# Altium integrated library SophistiLib.IntLib: 86 symbols
Pins are listed as number, name and electrical type; pins without a type are passive.

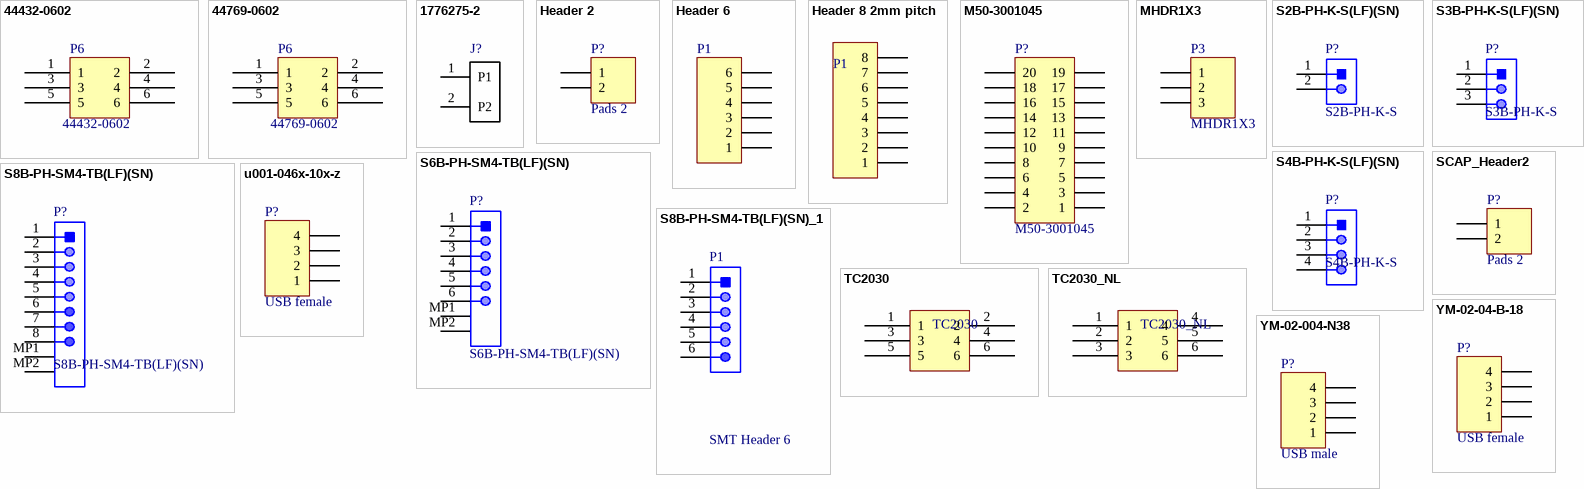
[diagram p0: symbols 44432-0602 to YM-02-004-N38]

## 44432-0602
designator P6
Molex 6 pin (2x3) header, pitch 3mm
footprint 44432-0602
pins: 1, 2, 3, 4, 5, 6

## 44769-0602
designator P6
Molex Male 6 pin (2x3) header, pitch 3mm
footprint 44769-0602
pins: 1, 2, 3, 4, 5, 6

## 1776275-2
designator J?  (value not drawn)
Vertical Term Blk Side Wire En; Number_of_Positions: 2; MF: TE Connectivity; Centerline_Pitch: 3.5 mm[.138 in]; MP: 1776275-2; Package: None; Availability: Good; EU_RoHS_Compliance: Compliant with Exemptions; Link: http://www.te.com/usa-en/product-1776275-2.html; SnapEDA_Link: https://www.snapeda.com/parts/1776275-2/TE%20Connectivity%20AMP%20Connectors/view-part/?ref=snap; Price: 0.42 USD; Value: *
footprint TE_1776275-2
pins: 1 P1, 2 P2

## Header 2
designator P?, comment Pads 2
Pads Through Hole 2 pins; LatestRevisionDate: 17-Jul-2002; LatestRevisionNote: Re-released for DXP Platform.; Publisher: Altium Limited
footprint HDRPDS2 (Connector; Header; 2 Position)
signal-integrity model Connector
pins: 1, 2

## Header 6
designator P1
Header, 6-Pin; LatestRevisionDate: 17-Jul-2002; LatestRevisionNote: Re-released for DXP Platform.; Publisher: Altium Limited
footprint HDR1X6 (Connector; Header; 6 Position)
signal-integrity model Connector
pins: 1, 2, 3, 4, 5, 6

## Header 8 2mm pitch
designator P1
Header, 8-Pin; LatestRevisionDate: 17-Jul-2002; LatestRevisionNote: Re-released for DXP Platform.; Publisher: Altium Limited
footprint HDR1X8 2mm (Connector; Header; 8 Position)
signal-integrity model Connector
pins: 1, 2, 3, 4, 5, 6, 7, 8

## M50-3001045
designator P?
Header, 10-Pin, Dual row; LatestRevisionDate: 17-Jul-2002; LatestRevisionNote: Re-released for DXP Platform.; Publisher: Altium Limited
footprint M50-3001045 (CONN RCPT 1.27MM T/H AU 20POS)
pins: 1, 2, 3, 4, 5, 6, 7, 8, 9, 10, 11, 12, 13, 14, 15, 16, 17, 18, 19, 20

## MHDR1X3
designator P3
Header, 3-Pin; LatestRevisionDate: 17-Jul-2002; LatestRevisionNote: Re-released for DXP Platform.; Publisher: Altium Limited
footprint MHDR1X3 (Connector; Header; 3 Position)
signal-integrity model Connector
footprint 53398-0371
pins: 1, 2, 3

## S2B-PH-K-S(LF)(SN)
designator P?, comment S2B-PH-K-S
Male Header, Pitch 2 mm, 1 x 2 Position, Height 4.8 mm, Tail Length 3.4 mm, -25 to 85 degC, RoHS, Bulk; Case\Package: Radial; Tolerance: 20%; Capacitance: 10 uF; Voltage Rating (DC): 50 V; Packaging: Bulk; ComponentLink1URL: http://www.jst-mfg.com/product/pdf/eng/ePH.pdf; Radiation Hardening: No; Height: 11 mm; Package Quantity: 200; PackageDescription: Male Header, Pitch 2 mm, 1 x 2 Position, Height 4.8 mm, Tail Length 3.4 mm; PackageReference: S2B-PH-K-S; Diameter: 5 mm; Pins: 2; Mount: Through Hole; Max Operating Temperature: 85 degC; Min Operating Temperature: -40 degC; ComponentLink1Description: Datasheet; DatasheetVersion: Dec-12; Length: 11 mm; Lead Pitch: 2 mm; REACH SVHC: No SVHC; Voltage Rating: 50 V; RoHSCompliant: true
footprint JST-S2B-PH-K-S_V (THD, 2-Leads, Body 7.6x5.9mm, Pitch 2mm)
pins: 1, 2

## S3B-PH-K-S(LF)(SN)
designator P?, comment S3B-PH-K-S
Male Header, Pitch 2 mm, 1 x 3 Position, Height 4.8 mm, Tail Length 3.4 mm, -25 to 85 degC, RoHS, Bulk; Case\Package: Radial; Tolerance: 20%; Capacitance: 10 uF; Voltage Rating (DC): 50 V; Packaging: Bulk; ComponentLink1URL: http://www.jst-mfg.com/product/pdf/eng/ePH.pdf; Radiation Hardening: No; Height: 11 mm; Package Quantity: 200; PackageDescription: Male Header, Pitch 2 mm, 1 x 3 Position, Height 4.8 mm, Tail Length 3.4 mm; PackageReference: S2B-PH-K-S; Diameter: 5 mm; Pins: 2; Mount: Through Hole; Max Operating Temperature: 85 degC; Min Operating Temperature: -40 degC; ComponentLink1Description: Datasheet; DatasheetVersion: Dec-12; Length: 11 mm; Lead Pitch: 2 mm; REACH SVHC: No SVHC; Voltage Rating: 50 V; RoHSCompliant: true
footprint JST-S3B-PH-K-S_V (THD, 3-Leads, Body 7.6x5.9mm, Pitch 2mm)
pins: 1, 2, 3

## S4B-PH-K-S(LF)(SN)
designator P?, comment S4B-PH-K-S
Male Header, Pitch 2 mm, 1 x 4 Position, Height 4.8 mm, Tail Length 3.4 mm, -25 to 85 degC, RoHS, Bulk; Case\Package: Radial; Tolerance: 20%; Capacitance: 10 uF; Voltage Rating (DC): 50 V; Packaging: Bulk; ComponentLink1URL: http://www.jst-mfg.com/product/pdf/eng/ePH.pdf; Radiation Hardening: No; Height: 11 mm; Package Quantity: 200; PackageDescription: Male Header, Pitch 2 mm, 1 x 4 Position, Height 4.8 mm, Tail Length 3.4 mm; PackageReference: S2B-PH-K-S; Diameter: 5 mm; Pins: 2; Mount: Through Hole; Max Operating Temperature: 85 degC; Min Operating Temperature: -40 degC; ComponentLink1Description: Datasheet; DatasheetVersion: Dec-12; Length: 11 mm; Lead Pitch: 2 mm; REACH SVHC: No SVHC; Voltage Rating: 50 V; RoHSCompliant: true
footprint JST-S4B-PH-K-S_V (THD, 4-Leads, Body 7.6x5.9mm, Pitch 2mm)
pins: 1, 2, 3, 4

## S6B-PH-SM4-TB(LF)(SN)
designator P?
Male Header, Pitch 2 mm, 1 x 6 Position, Height 5.5 mm, -25 to 85 degC; Manufacturer: JST; Pitch: 2mm; Style/Orientation: RightAngleHeader/Plug; No of Positions: 6; Package Reference: S6B-PH-SM4-TB(LF)(SN); Type: ShroudedHeader; Package Description: Male Header, Pitch 2 mm, 1 x 6 Position, Height 5.5 mm; Mounting Technology: SurfaceMount; Datasheet Version: 11/2008; Termination: Solder; Datasheet URL: https://datasheet.ciiva.com/11747/0900766b80df0d9d-11747278.pdf; Manufacturer URL: http://www.jst.com/home2.html
footprint JST-S6B-PH-SM4-TB(LF)(SN)_V (SMD, 2-Leads, Body 15.9x7.6mm, Pitch 2mm)
pins: 1, 2, 3, 4, 5, 6, MP1, MP2

## S8B-PH-SM4-TB(LF)(SN)
designator P?
Male Header, Pitch 2 mm, 1 x 8 Position, Height 5.5 mm, -25 to 85 degC; Manufacturer: JST; Pitch: 2mm; Style/Orientation: RightAngleHeader/Plug; No of Positions: 6; Package Reference: S8B-PH-SM4-TB(LF)(SN); Type: ShroudedHeader; Package Description: Male Header, Pitch 2 mm, 1 x 8 Position, Height 5.5 mm; Mounting Technology: SurfaceMount; Datasheet Version: 11/2008; Termination: Solder; Datasheet URL: https://datasheet.ciiva.com/11747/0900766b80df0d9d-11747278.pdf; Manufacturer URL: http://www.jst.com/home2.html
footprint S8B-PH-SM4-TB(LF)(SN)
pins: 1, 2, 3, 4, 5, 6, 7, 8, MP1, MP2

## S8B-PH-SM4-TB(LF)(SN)_1
designator P1, comment SMT Header 6
Pads SMT, Pitch 2 mm, 1 x 6 Position, -25 to 85 degC; Pitch: 2mm; No of Positions: 6; Mounting Technology: SurfaceMount
footprint SMT Header 6 (SMD, 2-Leads, Body 15.9x7.6mm, Pitch 2mm)
pins: 1, 2, 3, 4, 5, 6

## SCAP_Header2
designator P?, comment Pads 2
Pads Through Hole 2 pins; LatestRevisionDate: 17-Jul-2002; LatestRevisionNote: Re-released for DXP Platform.; Publisher: Altium Limited
footprint HDRPDS2 SCAP (Connector; Header; 2 Position)
signal-integrity model Connector
pins: 1, 2

## TC2030
designator TC2030  (value not drawn)
footprint TC2030-MCP
pins: 1, 2, 3, 4, 5, 6

## TC2030_NL
designator TC2030_NL  (value not drawn)
footprint TC2030-MCP-NL
pins: 1, 2, 3, 4, 5, 6

## u001-046x-10x-z
designator P?, comment USB female
USB connector THT female 90deg
footprint u001-046x-10x-z
pins: 1, 2, 3, 4

## YM-02-04-B-18
designator P?, comment USB female
USB connector THT female 90deg
footprint YM-02-04-B-18
pins: 1, 2, 3, 4

## YM-02-004-N38
designator P?, comment USB male
USB connector THT male 90deg
footprint YM-02-004-N38
pins: 1, 2, 3, 4


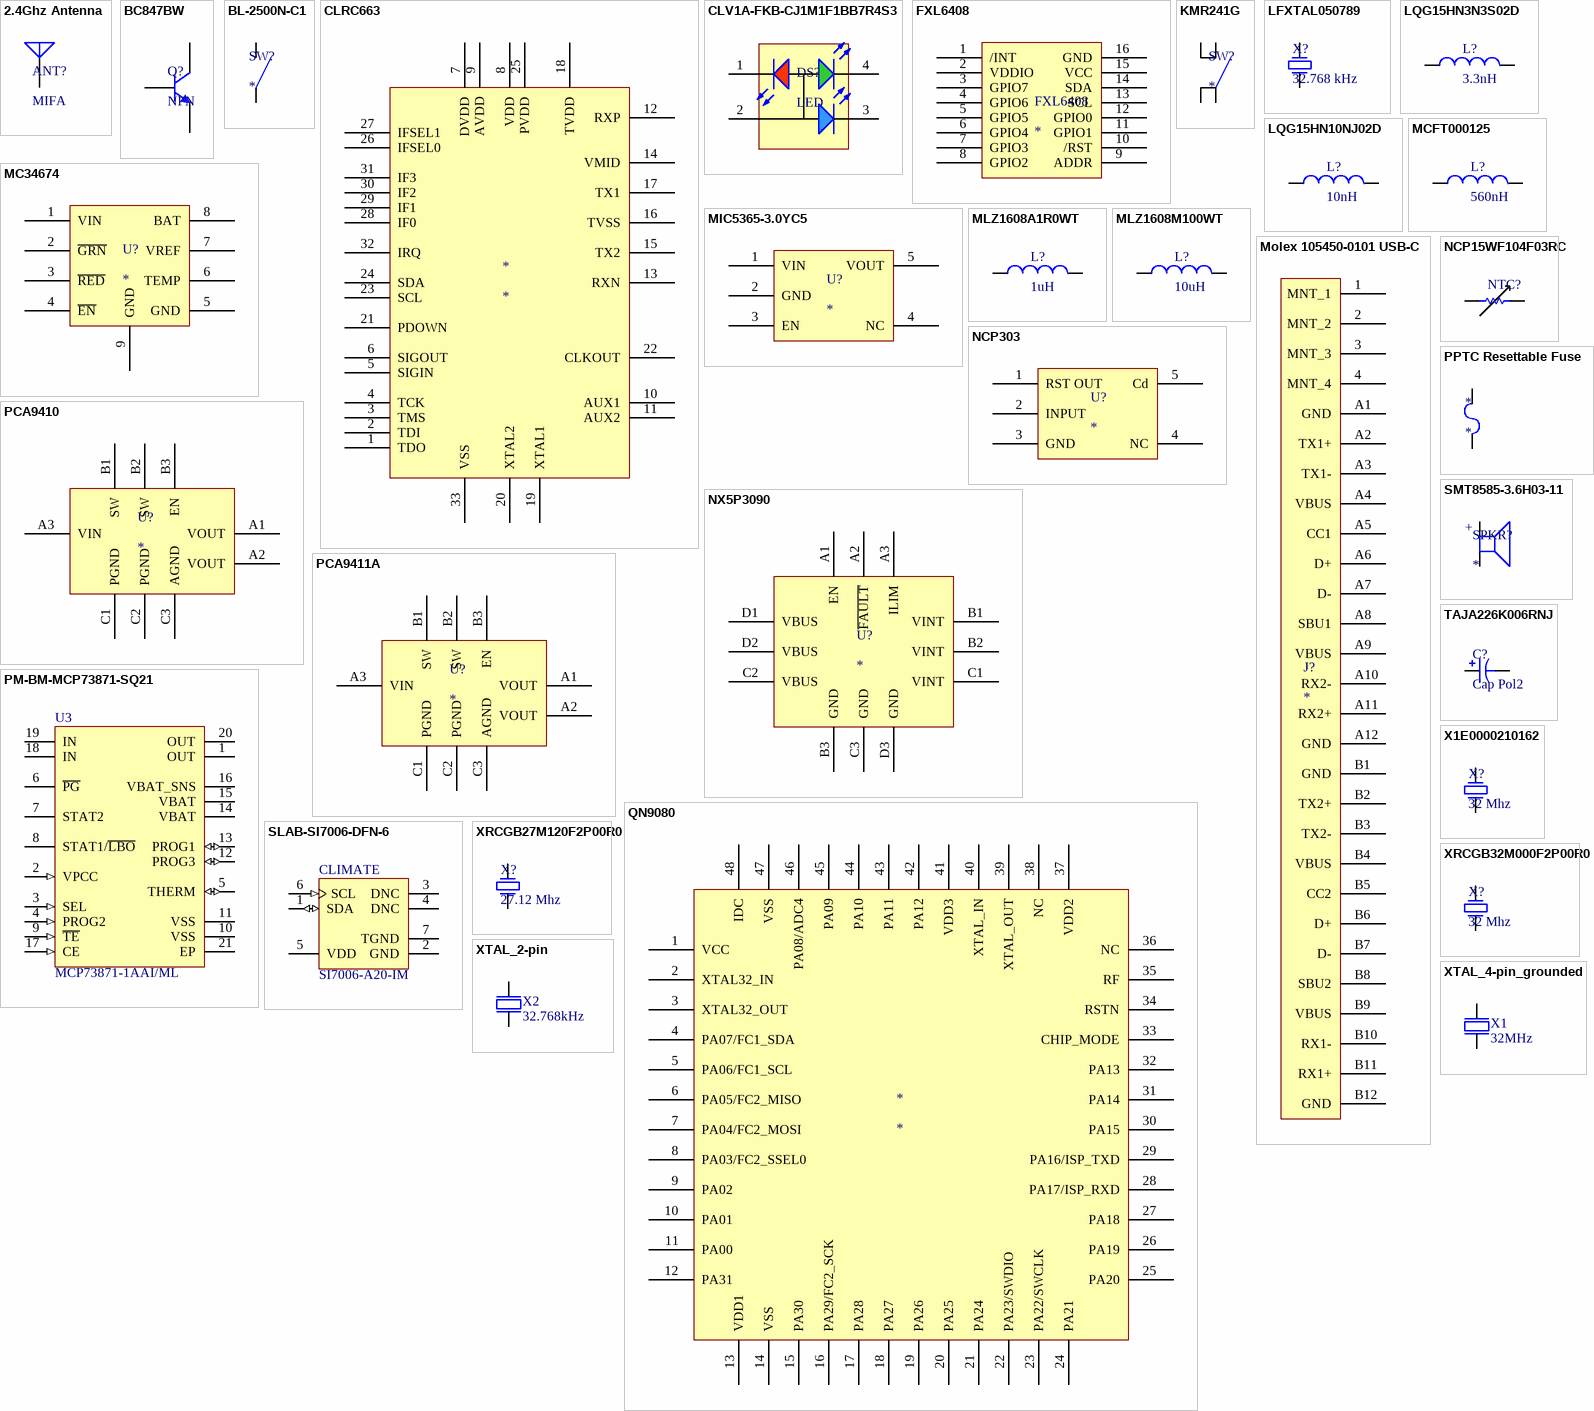
[diagram p1: symbols 2.4Ghz Antenna to XTAL_4-pin_grounded]

## 2.4Ghz Antenna
designator ANT?, comment MIFA
2.4 Ghz MIFA Antenna
footprint 2.4G MIFA (2.4G MIFA Trace Antenna)
pins: 1 A, 2 GND hidden to GND

## BC847BW
designator Q?, comment NPN
Bipolar (BJT) Single Transistor, General Purpose, NPN, 45 V, 100 MHz, 200 mW, 100 mA, 200 hFE
footprint SOT323
pins: 1 B, 2 E, 3 C

## BL-2500N-C1
designator SW?
SMD vibration sensor
footprint BL-2500N-C1
pins: 1, 2

## CLRC663
designator *
RFID READER, 13.56MHZ, HVQFN-32
footprint HVQFN-32
pins: 1 TDO, 2 TDI, 3 TMS, 4 TCK, 5 SIGIN, 6 SIGOUT, 7 DVDD, 8 VDD, 9 AVDD, 10 AUX1, 11 AUX2, 12 RXP, 13 RXN, 14 VMID, 15 TX2, 16 TVSS, 17 TX1, 18 TVDD, 19 XTAL1, 20 XTAL2, 21 PDOWN, 22 CLKOUT, 23 SCL, 24 SDA, 25 PVDD, 26 IFSEL0, 27 IFSEL1, 28 IF0, 29 IF1, 30 IF2, 31 IF3, 32 IRQ, 33 VSS

## CLV1A-FKB-CJ1M1F1BB7R4S3
designator DS?, comment LED
RGB LED, SMD, 120 °, Round, R 20mA, G 20mA, B 20mA
footprint RGB_LED_3.2x2.8
pins: 1 RED, 2 +, 3 Blue, 4 Green

## FXL6408
designator FXL6408
footprint FXL6408
pins: 1 /INT, 2 VDDIO, 3 GPIO7, 4 GPIO6, 5 GPIO5, 6 GPIO4, 7 GPIO3, 8 GPIO2, 9 ADDR, 10 /RST, 11 GPIO1, 12 GPIO0, 13 SCL, 14 SDA, 15 VCC, 16 GND

## KMR241G
designator SW?
Tactile Switch 2.4x2.8 mm, SPST
footprint KMR241G
pins: 1 A1, 2 B1, 3 A2, 4 B2

## LFXTAL050789
designator X?, comment 32.768 kHz
Crystal, 32.768 kHz, SMD, 2mm x 1.2mm, 12.5 pF, 20 ppm
footprint OSC20x12_2P (Crystal 2.0x1.2 mm 2 Pins)
pins: 1 I/O, 2 I/O

## LQG15HN3N3S02D
designator L?, comment 3.3nH
High Frequency Inductor, LQG15HN Series, 3.3 nH, 300 mA, 0402; Value: 3.3nH
footprint INDC0402
pins: 1, 2

## LQG15HN10NJ02D
designator L?, comment 10nH
High Frequency Inductor, LQG15HN Series, 10 nH, 300 mA, 0402; Value: 10nH
footprint INDC0402
pins: 1, 2

## MC34674
designator U?
High Input Voltage Travel Charger for Single-cell Li-Ion Batteries
footprint UDFN8
pins: 1 VIN (power), 2 ~{GRN} (oc), 3 ~{RED} (oc), 4 ~{EN}, 5 GND (power), 6 TEMP, 7 VREF, 8 BAT, 9 GND (power)

## MCFT000125
designator L?, comment 560nH
High Frequency Inductor, MCFT Series, 560 nH, 230 mA, 0805; Value: 560nH
footprint INDC0805
pins: 1, 2

## MIC5365-3.0YC5
designator U?
3.0V LDO Voltage Regulator
footprint SC-70
pins: 1 VIN, 2 GND, 3 EN, 4 NC, 5 VOUT

## MLZ1608A1R0WT
designator L?, comment 1uH
High Frequency Inductor, MLZ Series, 1 µH, 600 mA, 0603; Value: 1uH
footprint INDC0603
pins: 1, 2

## MLZ1608M100WT
designator L?, comment 10uH
High Frequency Inductor, MLZ Series, 10 µH, 250 mA, 0603; Value: 10uH
footprint INDC0603
pins: 1, 2

## Molex 105450-0101 USB-C
designator J?
USB Shielded I/O Receptacle, Type C, Right Angle, Top Mount, Surface Mount
footprint Molex 105450-0101 USB-C
pins: 1 MNT_1, 2 MNT_2, 3 MNT_3, 4 MNT_4, A1 GND, A2 TX1+, A3 TX1-, A4 VBUS, A5 CC1, A6 D+, A7 D-, A8 SBU1, A9 VBUS, A10 RX2-, A11 RX2+, A12 GND, B1 GND, B2 TX2+, B3 TX2-, B4 VBUS, B5 CC2, B6 D+, B7 D-, B8 SBU2, B9 VBUS, B10 RX1-, B11 RX1+, B12 GND

## NCP15WF104F03RC
designator NTC?
Thermistor, NTC, 100 kohm, NCP Series, 4250 K, SMD, 0402
footprint THRMC0402
pins: 1, 2

## NCP303
designator U?
3.3 Voltage detector
footprint SOT23-5
pins: 1 RST OUT, 2 INPUT, 3 GND, 4 NC, 5 Cd

## NX5P3090
designator U?
USB PD and type C current-limited power switch
footprint WLCSP12
pins: A1 EN, A2 ~{FAULT}, A3 ILIM, B1 VINT (power), B2 VINT (power), B3 GND (power), C1 VINT (power), C2 VBUS (power), C3 GND (power), D1 VBUS (power), D2 VBUS (power), D3 GND (power)

## PCA9410
designator U?
3.0 MHz, 500 mA, DC-to-DC boost converter, 2.5 min in, 5.0 out, non pass-through
footprint WLCSP9
pins: A1 VOUT, A2 VOUT, A3 VIN, B1 SW, B2 SW, B3 EN, C1 PGND, C2 PGND, C3 AGND

## PCA9411A
designator U?
3.0 MHz, 500 mA, DC-to-DC boost converter, 2.5 min in, 5.25 out, pass-through
footprint WLCSP9
pins: A1 VOUT, A2 VOUT, A3 VIN, B1 SW, B2 SW, B3 EN, C1 PGND, C2 PGND, C3 AGND

## PM-BM-MCP73871-SQ21
designator U3, comment MCP73871-1AAI/ML
Stand-Alone System Load Sharing and Li-Ion/Li-Polymer Battery Charge Management Controller, 4.1V, 20-Pin QFN, Industrial Temperature; PackageDescription: 20-Lead Plastic Quad Flat, No Lead Package (ML) - 4x4x0.9 mm Body [QFN]; PackageVersion: revBB, Aug-2009; DatasheetVersion: revB, May-2009; PackageReference: QFN-ML20
footprint QFN-ML20_N (QFN, 20-Leads, Body 4x4mm, Pitch 0.5mm, Thermal Pad 2.8x2.8mm, IPC Medium Density)
footprint QFN-ML20_L (QFN, 20-Leads, Body 4x4mm, Pitch 0.5mm, Thermal Pad 2.8x2.8mm, IPC High Density)
footprint QFN-ML20_M (QFN, 20-Leads, Body 4x4mm, Pitch 0.5mm, Thermal Pad 2.8x2.8mm, IPC Low Density)
pins: 1 OUT (power), 2 VPCC (in), 3 SEL (in), 4 PROG2 (in), 5 THERM (io), 6 ~{PG} (oc), 7 STAT2 (oc), 8 STAT1/~{LBO} (oc), 9 ~{TE} (in), 10 VSS (power), 11 VSS (power), 12 PROG3 (io), 13 PROG1 (io), 14 VBAT (power), 15 VBAT (power), 16 VBAT_SNS (power), 17 CE (in), 18 IN (power), 19 IN (power), 20 OUT (power), 21 EP (power)

## PPTC Resettable Fuse
designator *
PPTC Resettable Fuse
footprint FUSC0805
pins: 1, 2

## QN9080
designator *
BLE microcontroller with 32-bit ARM Cortex-M4
footprint HVQFN-48
pins: 1 VCC, 2 XTAL32_IN, 3 XTAL32_OUT, 4 PA07/FC1_SDA, 5 PA06/FC1_SCL, 6 PA05/FC2_MISO, 7 PA04/FC2_MOSI, 8 PA03/FC2_SSEL0, 9 PA02, 10 PA01, 11 PA00, 12 PA31, 13 VDD1 (power), 14 VSS (power), 15 PA30, 16 PA29/FC2_SCK, 17 PA28, 18 PA27, 19 PA26, 20 PA25, 21 PA24, 22 PA23/SWDIO, 23 PA22/SWCLK, 24 PA21, 25 PA20, 26 PA19, 27 PA18, 28 PA17/ISP_RXD, 29 PA16/ISP_TXD, 30 PA15, 31 PA14, 32 PA13, 33 CHIP_MODE, 34 RSTN, 35 RF, 36 NC, 37 VDD2, 38 NC, 39 XTAL_OUT, 40 XTAL_IN, 41 VDD3 (power), 42 PA12, 43 PA11, 44 PA10, 45 PA09, 46 PA08/ADC4, 47 VSS (power), 48 IDC (power), 49 GND (power) hidden to GND

## SLAB-SI7006-DFN-6
designator CLIMATE, comment SI7006-A20-IM
I2C Humidity and Temperature Sensor, 1.9 to 3.6 V, -40 to 125 degC, 6-Pin DFN, RoHS, Tube; Manufacturer: Silicon Labs; Output Type: Digital; Resolution: 12(Humidity)bit,14(Temperature)bit; Minimum Operating Supply Voltage: 1.9V; Sensor Function: Temperature&Humidity; Accuracy: ±1°C,±5%RH; Maximum Operating Supply Voltage: 3.6V; Pin Count: 6; Maximum Operating Temperature: +125°C; Package Reference: DFN-6; Height: 0.75mm; Datasheet URL: https://www.silabs.com/Support%20Documents%2FTechnicalDocs%2FSi7006-A20.pdf; Datasheet Version: Rev. 1.1, 06/2015; Package Type: DFN; Mounting Technology: SurfaceMount; Dimensions: 3x3x0.75mm; Length: 3mm; Package Description: 6-Pin Small Outline No-Lead Package, Body 3 x 3 mm, Pitch 1 mm; Minimum Operating Temperature: -40°C; Interface Type: I2C; Mounting Type: SurfaceMount; Width: 3mm; Manufacturer URL: http://www.silabs.com/
footprint SLAB-DFN-6-1500X2400TP_V (SON, 6-Leads, Body 3x3mm, Pitch 1mm, Thermal Pad 1.6x2.5mm)
pins: 1 SDA (io) "I2C data", 2 GND (power) "Ground. This pin is connected to ground on the circuit board through a trace. Do not connect directly to GND plane.", 3 DNC "These pins should be soldered to pads on the PCB for mechanical stability; they can be electrically floating or tied to VDD (do not tie to GND).", 4 DNC "These pins should be soldered to pads on the PCB for mechanical stability; they can be electrically floating or tied to VDD (do not tie to GND).", 5 VDD (power) "Power. This pin is connected to power on the circuit board.", 6 SCL (in) "I2C clock", 7 TGND (power) "This pad is connected to GND internally. This pad is the main thermal input to the on-chip temperature sensor. The paddle should be soldered to a floating pad."

## SMT8585-3.6H03-11
designator SPKR?
Electro-Magnet Transducer, 2.5-4.5 Vo-p, 15±3ohm
footprint SMT8585-3.6H03-11
pins: 1 +, 2 -, 3 M hidden, 4 M hidden

## TAJA226K006RNJ
designator C?, comment Cap Pol2
Surface Mount Tantalum Capacitor, 22 µF, 6.3 V, TAJ Series, ± 10%, 1206 [3216 Metric]
footprint POLCAP1206
pins: 1, 2

## X1E0000210162
designator X?, comment 32 Mhz
Crystal, 32 MHz, SMD, 3.2mm x 2.5mm, 10 ppm, 9 pF, 10 ppm
footprint OSC32X25
pins: 1 I/O, 2 GND hidden to GND, 3 I/O, 4 GND hidden to GND

## XRCGB27M120F2P00R0
designator X?, comment 27.12 Mhz
Crystal, 27.12 MHz, SMD, 2mm x 1.6mm, 20 ppm, 6 pF
footprint OSC20x16
pins: 1 I/O, 2 GND hidden to GND, 3 I/O, 4 GND hidden to GND

## XRCGB32M000F2P00R0
designator X?, comment 32 Mhz
Crystal, 32 MHz, SMD, 2mm x 1.6mm, 20 ppm, 6 pF
footprint OSC20x16
pins: 1 I/O, 2 GND hidden to GND, 3 I/O, 4 GND hidden to GND

## XTAL_2-pin
designator X2, comment 32.768kHz
EPSON TOYOCOM - FC-135 32.768KHZ ±20PPM,9.0PF - CRYSTAL, SM, WATCH; Part Number: XTAL_FC-135 32.768k; 2nd source part number: 127-8037; Note: XTAL SMD 32.768kHz, 3215; Artikkelnr Noca: 22019091; Artikkelnr Simpro: N.A.; Manufacturer: Epson Toyocom; Manufacturer Part Number: FC-135 32.768KHZ ±20PPM,9.0PF; Datasheet: http://www.farnell.com/datasheets/57480.pdf; LatestRevisionDate: 2014-03-27; Pin Count: 2; Publisher: Nordic Semiconductor; Published: 2010-10-18; Value: 32.768kHz; Supplier: Digi-Key; Supplier part number: FC-135 32.7680KA-AC-ND; 2nd source Supplier: Farnell; Footprint Doc: XTAL_3215
footprint XTAL_3215
pins: 1 inp, 2 out

## XTAL_4-pin_grounded
designator X1, comment 32MHz
XTAL SMD 2016, 32MHz, Cl=8pF, Tol: ±10ppm, Stab: ±10ppm; Part Number: XTAL_SMD2016_32MHz_8pF_Epson; Manufacturer: Epson Toyocom; Manufacturer Part Number: Q22FA12800025; Note: XTAL SMD 32.000MHz; Artikkelnr Noca: N.A.; Datasheet: http://www.epsondevice.com/docs/qd/en/DownloadServlet?id=ID000449; LatestRevisionDate: 2014-11-27; Pin Count: 4; Publisher: Nordic Semiconductor; Published: 2012-03-09; Value: 32MHz; Supplier: Farnell; Supplier part number: 171-2806; 2nd source Supplier: *; 2nd source part number: *; Footprint Doc: XTAL_2016; Artikkelnr Simpro: N.A.
footprint BT-XTAL_2016 (Crystal 2.0 x 1.6 mm)
pins: 1 inp, 2 GND hidden to GND, 3 out, 4 GND hidden to GND


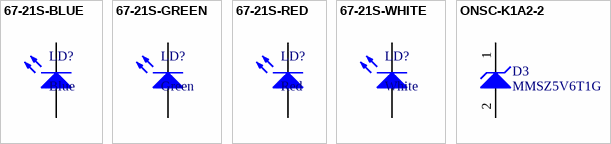
[diagram p2: symbols 67-21S-BLUE to ONSC-K1A2-2]

## 67-21S-BLUE
designator LD?, comment Blue
Everlight 67-21S/NB3C-D6575B8L52936Z15/2T
footprint 67-21S LED (LED 2835 SMD)
pins: 1 K, 2 A

## 67-21S-GREEN
designator LD?, comment Green
Everlight 67-21S/NG3C-D2035N3PB2936Z15/2T
footprint 67-21S LED (LED 2835 SMD)
pins: 1 K, 2 A

## 67-21S-RED
designator LD?, comment Red
Everlight 67-21S/NR3C-D1530L6M41829Z15/2T
footprint 67-21S LED (LED 2835 SMD)
pins: 1 K, 2 A

## 67-21S-WHITE
designator LD?, comment White
Everlight 67-21S/KK5C-3H6565R4R72834Z15/2T/EU
footprint 67-21S LED (LED 2835 SMD)
pins: 1 A, 2 K

## ONSC-K1A2-2
designator D3, comment MMSZ5V6T1G
Zener Voltage Regulator, 500 mW, 2-Pin SOD-123, Pb-Free, Tape and Reel; Manufacturer: On Semiconductor; P Max (W): 0.5; PackageVersion: Rev. G, 10/2009; ComponentLink2Description: Datasheet; ComponentLink2URL: http://www.onsemi.com/pub_link/Collateral/MMSZ2V4T1-D.PDF; ComponentLink3Description: Package Specification; DatasheetVersion: Rev. 11; PackageDescription: 2-Pin SOD, Body 1.6 x 2.69 mm; ComponentLink1Description: Manufacturer URL; ComponentLink3URL: http://www.onsemi.com/pub_link/Collateral/425-04.PDF; ComponentLink1URL: http://www.onsemi.com/; Mounting Technology: Surface Mount; PartNumber: MMSZ5V6T1G; PackageReference: SOD-123-2-425-04; RoHS: Pb-Free; Packing: Tape and Reel
footprint ONSC-SOD-123-2-425-04_V (SOD, 2-Leads, Body 2.69x1.6mm)
pins: 1 K, 2 A


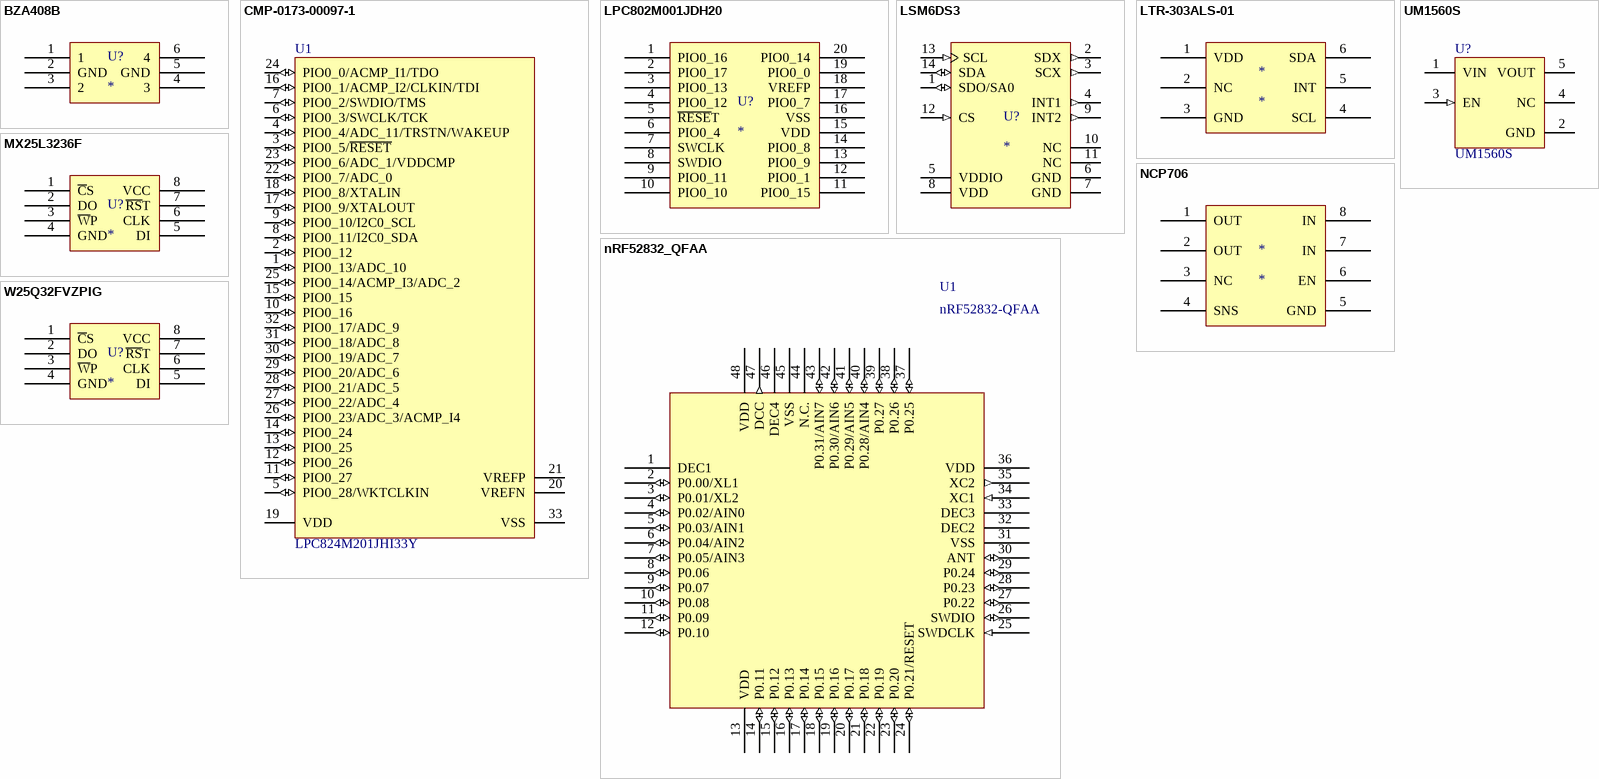
[diagram p3: symbols BZA408B to W25Q32FVZPIG]

## BZA408B
designator U?
Quadruple bidirectional ESD transient voltage suppressor
pins: 1, 2 GND, 3 2, 4 3, 5 GND, 6 4

## CMP-0173-00097-1
designator U1, comment LPC824M201JHI33Y
32-bit ARM Cortex-M0+ Microcontroller, 29 I/O, 32 KB Flash, 8 KB SRAM, -40 to 105 degC, 32-Pin HVQFN, Reel, RoHS; Manufacturer: NXP Semiconductors; RAM: 8 KB; Flash: 32 KB; Clock Speed: 30 MHz max.; ComponentLink1Description: Manufacturer URL; Mounting Technology: Surface Mount; Packing: Reel; Code_JEDEC: MO-220; ComponentLink2Description: Datasheet; PartNumber: LPC824M201JHI33; DatasheetVersion: Rev. 1; Core: Cortex-M0+; ComponentLink3Description: Package Specification; ComponentLink3URL: http://www.nxp.com/documents/outline_drawing/sot617-3_po.pdf; PackageDescription: 32-Pin Plastic Thermal Enhanced Very Thin Quad Flat Package, Body 5 x 5 mm, Pitch 0.5 mm; PackageVersion: 11-06-21, 06/2011; ComponentLink2URL: http://www.nxp.com/documents/data_sheet/LPC82X.pdf; ComponentLink1URL: www.nxp.com
footprint NXP-SOT617-3_N-adj (QFN, 32-Leads, Body 5x5mm, Pitch 0.5mm, Thermal Pad 3.6x3.6mm, IPC Medium Density)
pins: 1 PIO0_13/ADC_10 (io), 2 PIO0_12 (io) "PIO0_12 - General-purpose port 0 input/output 12. ISP entry pin. A LOW level on this pin during reset starts the ISP command handler.", 3 PIO0_5/~{RESET} (io), 4 PIO0_4/ADC_11/TRSTN/WAKEUP (io), 5 PIO0_28/WKTCLKIN (io), 6 PIO0_3/SWCLK/TCK (io), 7 PIO0_2/SWDIO/TMS (io), 8 PIO0_11/I2C0_SDA (io), 9 PIO0_10/I2C0_SCL (io), 10 PIO0_16 (io) "PIO0_16 - General-purpose port 0 input/output 16.", 11 PIO0_27 (io) "PIO0_27 - General-purpose port 0 input/output 27.", 12 PIO0_26 (io) "PIO0_26 - General-purpose port 0 input/output 26.", 13 PIO0_25 (io) "PIO0_25 - General-purpose port 0 input/output 25.", 14 PIO0_24 (io) "PIO0_24 - General-purpose port 0 input/output 24.", 15 PIO0_15 (io) "PIO0_15 - General-purpose port 0 input/output 15.", 16 PIO0_1/ACMP_I2/CLKIN/TDI (io), 17 PIO0_9/XTALOUT (io), 18 PIO0_8/XTALIN (io), 19 VDD (power) "Supply voltage for the I/O pad ring, the core voltage regulator, and the analog peripherals.", 20 VREFN (power) "ADC negative reference voltage.", 21 VREFP (power) "ADC positive reference voltage. Must be equal or lower than VDD.", 22 PIO0_7/ADC_0 (io), 23 PIO0_6/ADC_1/VDDCMP (io), 24 PIO0_0/ACMP_I1/TDO (io), 25 PIO0_14/ACMP_I3/ADC_2 (io), 26 PIO0_23/ADC_3/ACMP_I4 (io), 27 PIO0_22/ADC_4 (io), 28 PIO0_21/ADC_5 (io), 29 PIO0_20/ADC_6 (io), 30 PIO0_19/ADC_7 (io), 31 PIO0_18/ADC_8 (io), 32 PIO0_17/ADC_9 (io), 33 VSS (power) "Ground."

## LPC802M001JDH20
designator U?
32-bit Arm® Cortex®-M0+ microcontroller
footprint TSSOP20
pins: 1 PIO0_16, 2 PIO0_17, 3 PIO0_13, 4 PIO0_12, 5 ~{RESE}T, 6 PIO0_4, 7 SWCLK, 8 SWDIO, 9 PIO0_11, 10 PIO0_10, 11 PIO0_15, 12 PIO0_1, 13 PIO0_9, 14 PIO0_8, 15 VDD, 16 VSS, 17 PIO0_7, 18 VREFP, 19 PIO0_0, 20 PIO0_14

## LSM6DS3
designator U?
Motion sensor
footprint LGA-14
pins: 1 SDO/SA0 (io), 2 SDX (out) "Connect to VDDIO or GND/I2C serial data master (MSDA)", 3 SCX (out) "Connect to VDDIO or GND/I2C serial clock master (MSCL)", 4 INT1 (out) "Programmable interrupt 1", 5 VDDIO (power) "Power supply for I/O pins", 6 GND (power) "0 V supply", 7 GND (power) "0 V supply", 8 VDD (power) "Power supply", 9 INT2 (out) "Programmable interrupt 2  (INT2) / Data enable (DEN)/Programmable interrupt 2 (INT2)/  Data enable (DEN)/  I  2C master external synchronization  signal (MDRDY)", 10 NC "Leave unconnected", 11 NC "Leave unconnected", 12 CS (in) "I2C/SPI mode selection", 13 SCL (in) "I2C serial clock (SCL)  SPI serial port clock (SPC)", 14 SDA (io) "I2C serial data (SDA)  SPI serial data input (SDI)  3-wire interface serial data output  (SDO)"

## LTR-303ALS-01
designator *
Optical Sensor
footprint LTR-303ALS-01
pins: 1 VDD, 2 NC, 3 GND, 4 SCL, 5 INT, 6 SDA

## MX25L3236F
designator U?
NOR Flash Serial-SPI 3V/3.3V 32M-bit 4M x 8 8.5ns 8-Pin 8-SOP
footprint WSON8
pins: 1 ~{C}S, 2 DO, 3 ~{W}P, 4 GND, 5 DI, 6 CLK, 7 ~{RS}T, 8 VCC

## NCP706
designator *
footprint XDFN8
pins: 1 OUT, 2 OUT, 3 NC, 4 SNS, 5 GND, 6 EN, 7 IN, 8 IN, 9 GND hidden to GND

## nRF52832_QFAA
designator U1, comment nRF52832-QFAA
Multi-protocol Bluetooth Low Energy and 2.4GHz proprietary system-on-chip; Manufacturer: Nordic Semiconductor; Artikkelnr Noca: N.A.; Part Number: nRF52832-QFAA; Manufacturer Part Number: nRF52832-QFAA; Datasheet: *; LatestRevisionDate: 2014-11-26; Pin Count: 48; Publisher: Nordic Semiconductor; Published: 2014-11-26; Value: nRF52832-QFAA; Note: *; Supplier: Nordic Semiconductor; Supplier part number: *; 2nd source Supplier: *; 2nd source part number: *; Footprint Doc: QFN-48; Artikkelnr Simpro: N.A.
footprint QFN40P600X600X90-48N - duplicate (QFN, 48-Leads, Body 6,0x6,0mm (max), Pitch 0,40mm, IPC Medium Density)
pins: 1 DEC1 (power), 2 P0.00/XL1 (io), 3 P0.01/XL2 (io), 4 P0.02/AIN0 (io), 5 P0.03/AIN1 (io), 6 P0.04/AIN2 (io), 7 P0.05/AIN3 (io), 8 P0.06 (io), 9 P0.07 (io), 10 P0.08 (io), 11 P0.09 (io), 12 P0.10 (io), 13 VDD (power), 14 P0.11 (io), 15 P0.12 (io), 16 P0.13 (io), 17 P0.14 (io), 18 P0.15 (io), 19 P0.16 (io), 20 P0.17 (io), 21 P0.18 (io), 22 P0.19 (io), 23 P0.20 (io), 24 P0.21/RESET (io), 25 SWDCLK (in), 26 SWDIO (io), 27 P0.22 (io), 28 P0.23 (io), 29 P0.24 (io), 30 ANT (io), 31 VSS (power), 32 DEC2 (power), 33 DEC3 (power), 34 XC1 (in), 35 XC2 (out), 36 VDD (power), 37 P0.25 (io), 38 P0.26 (io), 39 P0.27 (io), 40 P0.28/AIN4 (io), 41 P0.29/AIN5 (io), 42 P0.30/AIN6 (io), 43 P0.31/AIN7 (io), 44 N.C. (power), 45 VSS (power), 46 DEC4 (power), 47 DCC (out), 48 VDD (power), 49 GND (power) hidden to GND

## UM1560S
designator U?
Single LDO, 1.8 to 8 V, Fixed Out 3.3 V, 0.3 A, -40 to 125 degC, 5-Pin SOT-23 (M5), RoHS, Tape and Reel; Number of Regulators: 1; Dropout Voltage: 250mV; Output Current: 300mA; Min Input Voltage: 1.8V; Nominal Output Voltage: 3.3V; Max Input Voltage: 8V; Min Current Limit: 400mA; Number of Pins: 5; RoHSCompliant: True; Min Operating Temperature: -40degC; Case\/Package: SOT-23; Package Description: 5-Pin Small Outline Transistor, Body 1.6 x 2.9 mm, Pitch 0.95 mm; Max Operating Temperature: 125degC; Packaging: CutTape; Package Reference: SOT-23-5; Mount: SurfaceMount; Output Voltage: 3.3V; Mounting Technology: SurfaceMount; REACH SVHC: NoSVHC
pins: 1 VIN (power) "Supply Input", 2 GND (power) "Ground", 3 EN (in) "Enable Input: Active High. High=ON; low=OFF. MIC5504 have an internal pull-down and this pin may be left floating.", 4 NC "No Connection. Pin is not internally connected.", 5 VOUT (power) "Output Voltage. When disable the MIC5504 switches in an internal 25 ohm load to discharge the external capacitors."

## W25Q32FVZPIG
designator U?
NOR Flash Serial-SPI 3V/3.3V 32M-bit 4M x 8 8.5ns 8-Pin WSON EP
footprint WSON8
pins: 1 ~{C}S, 2 DO, 3 ~{W}P, 4 GND, 5 DI, 6 CLK, 7 ~{RS}T, 8 VCC


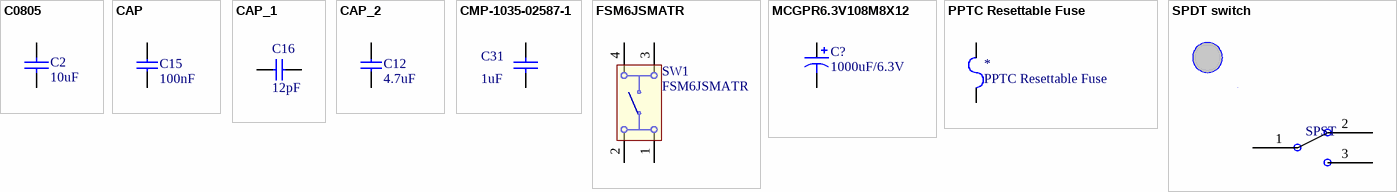
[diagram p4: symbols C0805 to SPDT switch]

## C0805
designator C2, comment 10uF
Ceramic Chip Capacitor - Standard; Note: Footprint corresponds to dimensions for bulk cassette packaging. This case size has tightened tolerances.; Published: 17-Jul-2002; LatestRevisionDate: 19-Mar-2004; LatestRevisionNote: Silkscreen size reduced.; DatasheetDocument: Mar-2001; PackageDocument: Mar-2001; PackageReference: 0805; Publisher: Altium Limited; Code_JEITA: 0805; Code_IPC: 2012[0805]; ComponentLink1Description: Manufacturer Link; ComponentLink1URL: http://www.kemet.com/; ComponentLink2Description: Datasheet; ComponentLink2URL: http://www.kemet.com/kemet/web/homepage/kechome.nsf/vapubfilesname/F3102TA.pdf/$file/F3102TA.pdf; Value: 10uF
footprint 0805 (Chip Capacitor; Body 2.0 x 1.2 mm (LxW typ))
simulation model CAP (Capacitor)
signal-integrity model C0805
pins: 1, 2

## CAP
designator C15, comment 100nF
Capacitor, X7R, ±10%; Part Number: C0402-100n; Note: 16V; Artikkelnr Noca: 20039200; Artikkelnr Simpro: N.A.; Manufacturer: *; Manufacturer Part Number: *; Datasheet: *; LatestRevisionDate: 2009-11-23; Pin Count: 2; Publisher: Nordic Semiconductor; Published: 2009-05-08; Value: 100nF; Supplier: *; Supplier part number: *; 2nd source Supplier: *; 2nd source part number: *; Footprint Doc: 0402
footprint CAPC1005X04L
pins: 1, 2

## CAP_1
designator C16, comment 12pF
Capacitor, NP0, ±2%; Part Number: C0402-12p; Note: 50V; Artikkelnr Noca: 20029159; Artikkelnr Simpro: N.A.; Manufacturer: *; Manufacturer Part Number: *; Datasheet: *; LatestRevisionDate: 2011-05-11; Pin Count: 2; Publisher: Nordic Semiconductor; Published: 2009-05-08; Value: 12pF; Supplier: *; Supplier part number: *; 2nd source Supplier: *; 2nd source part number: *; Footprint Doc: 0402
footprint CAPC1005X04L (Chip Capacitor, 2-Leads, Body 1.0x0.5mm, IPC High Density)
pins: 1, 2

## CAP_2
designator C12, comment 4.7uF
Capacitor, X5R, ±10%; Part Number: C0603-4µ7; Note: 6.3V; Artikkelnr Noca: 20069060; Artikkelnr Simpro: N.A.; Manufacturer: *; Manufacturer Part Number: *; Datasheet: *; LatestRevisionDate: 2009-11-23; Pin Count: 2; Publisher: Nordic Semiconductor; Published: 2009-05-08; Value: 4.7uF; Supplier: *; Supplier part number: *; 2nd source Supplier: *; 2nd source part number: *; Footprint Doc: 0603
footprint CAPC1608X06L
pins: 1, 2

## CMP-1035-02587-1
designator C31, comment 1uF
Case-EIA: 0603; Tolerance: ±5%; Rated Voltage: 25 V; Case-Metric: 1608; Technology: SMT; Max Thickness: 1 mm; Value: 1uF
footprint CAPC0603(1608)100_M (Chip Capacitor, Body 1.6x0.8mm, Height 1.0mm, IPC Low Density)
footprint CAPC0603(1608)100_L (Chip Capacitor, Body 1.6x0.8mm, Height 1.0mm, IPC High Density)
footprint CAPC1005L (Chip Capacitor, Body 1.0x0.5mm, IPC High Density)
footprint CAPC1005N (Chip Capacitor, Body 1.0x0.5mm, IPC Medium Density)
footprint CAPC1608L
pins: 1, 2
1 alternate drawing of the same symbol

## FSM6JSMATR
designator SW1
footprint FSMJSMA (TE switch SMT)
pins: 1, 2, 3, 4

## MCGPR6.3V108M8X12
designator C?, comment 1000uF/6.3V
CAP ALUM 1000UF 6.3V 20% RADIAL; PartNumber: ECA-1JHG471; ComponentLink1Description: Datasheet; PackageReference: ECA-1JHG471
footprint MCGPR6.3V108M8X12
pins: 1 +, 2 -

## PPTC Resettable Fuse
designator *
footprint FUSC0805
pins: 1, 2

## SPDT switch
designator SPST  (value not drawn)
footprint SPST switch (MGU switch)
pins: 1, 2, 3


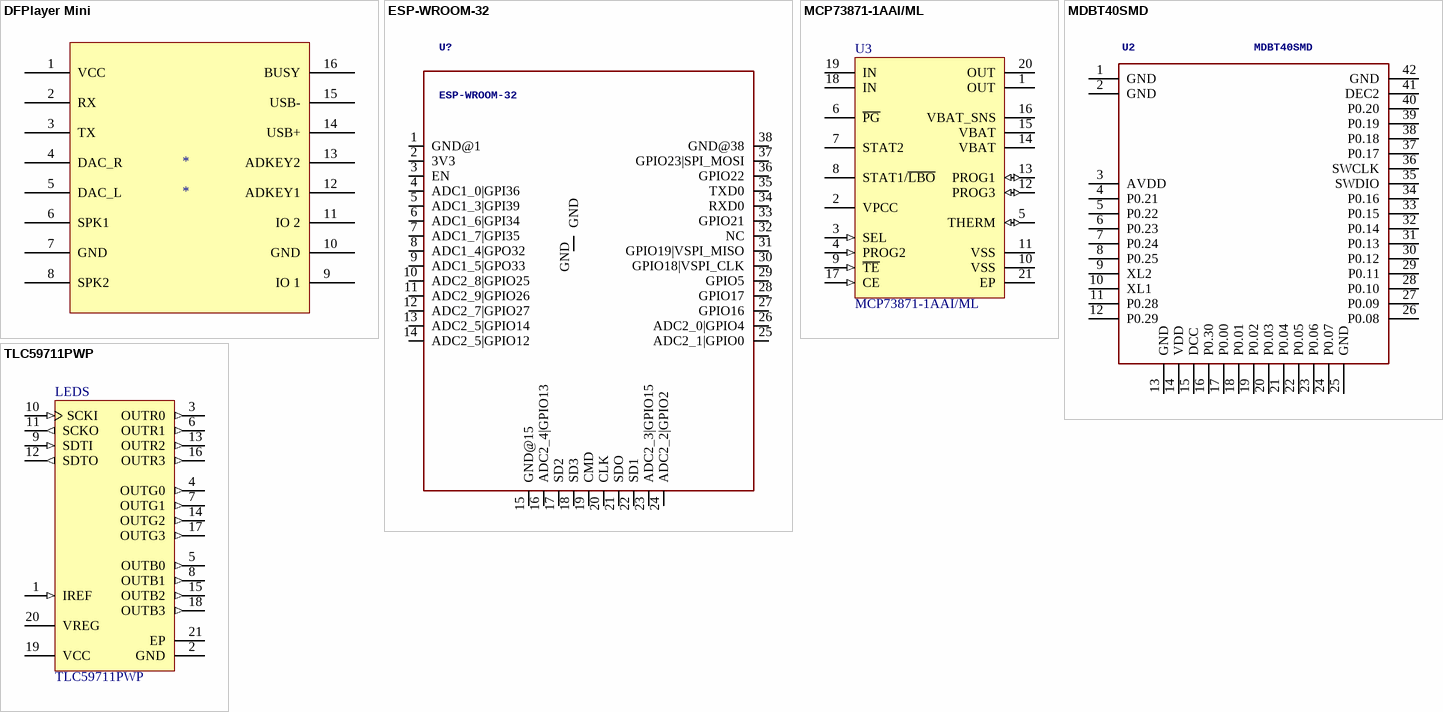
[diagram p5: symbols DFPlayer Mini to TLC59711PWP]

## DFPlayer Mini
designator *
footprint DFPlayer Mini
pins: 1 VCC, 2 RX, 3 TX, 4 DAC_R, 5 DAC_L, 6 SPK1, 7 GND, 8 SPK2, 9 IO 1, 10 GND, 11 IO 2, 12 ADKEY1, 13 ADKEY2, 14 USB+, 15 USB-, 16 BUSY

## ESP-WROOM-32
designator U?
WIFI/BLE module; GateName_1: G$1; SymbolName_1: ESP-WROOM-32; LibraryName: esp32; DeviceSetName: ESP-WROOM-32
footprint ESP-WROOM-32
pins: 1 GND@1, 2 3V3, 3 EN, 4 ADC1_0|GPI36, 5 ADC1_3|GPI39, 6 ADC1_6|GPI34, 7 ADC1_7|GPI35, 8 ADC1_4|GPO32, 9 ADC1_5|GPO33, 10 ADC2_8|GPIO25, 11 ADC2_9|GPIO26, 12 ADC2_7|GPIO27, 13 ADC2_5|GPIO14, 14 ADC2_5|GPIO12, 15 GND@15, 16 ADC2_4|GPIO13, 17 SD2, 18 SD3, 19 CMD, 20 CLK, 21 SDO, 22 SD1, 23 ADC2_3|GPIO15, 24 ADC2_2|GPIO2, 25 ADC2_1|GPIO0, 26 ADC2_0|GPIO4, 27 GPIO16, 28 GPIO17, 29 GPIO5, 30 GPIO18|VSPI_CLK, 31 GPIO19|VSPI_MISO, 32 NC, 33 GPIO21, 34 RXD0, 35 TXD0, 36 GPIO22, 37 GPIO23|SPI_MOSI, 38 GND@38, GND

## MCP73871-1AAI/ML
designator U3
Stand-Alone System Load Sharing and Li-Ion/Li-Polymer Battery Charge Management Controller, 4.1V, 20-Pin QFN, Industrial Temperature; PackageDescription: 20-Lead Plastic Quad Flat, No Lead Package (ML) - 4x4x0.9 mm Body [QFN]; PackageVersion: revBB, Aug-2009; DatasheetVersion: revB, May-2009; PackageReference: QFN-ML20
footprint MCP73871-1AAI/ML
footprint QFN-ML20_L (QFN, 20-Leads, Body 4x4mm, Pitch 0.5mm, Thermal Pad 2.8x2.8mm, IPC High Density)
footprint QFN-ML20_M (QFN, 20-Leads, Body 4x4mm, Pitch 0.5mm, Thermal Pad 2.8x2.8mm, IPC Low Density)
pins: 1 OUT (power), 2 VPCC (power), 3 SEL (in), 4 PROG2 (in), 5 THERM (io), 6 ~{PG} (oc), 7 STAT2 (oc), 8 STAT1/~{LBO} (oc), 9 ~{TE} (in), 10 VSS (power), 11 VSS (power), 12 PROG3 (io), 13 PROG1 (io), 14 VBAT (power), 15 VBAT (power), 16 VBAT_SNS (power), 17 CE (in), 18 IN (power), 19 IN (power), 20 OUT (power), 21 EP (power)

## MDBT40SMD
designator U2
nRF51 BLE module; GateName_1: G$1; SymbolName_1: MDBT40; DeviceName: SMD; LibraryName: linkx; DeviceSetName: MDBT40
footprint MDBT40
pins: 1 GND, 2 GND, 3 AVDD, 4 P0.21, 5 P0.22, 6 P0.23, 7 P0.24, 8 P0.25, 9 XL2, 10 XL1, 11 P0.28, 12 P0.29, 13 GND, 14 VDD, 15 DCC, 16 P0.30, 17 P0.00, 18 P0.01, 19 P0.02, 20 P0.03, 21 P0.04, 22 P0.05, 23 P0.06, 24 P0.07, 25 GND, 26 P0.08, 27 P0.09, 28 P0.10, 29 P0.11, 30 P0.12, 31 P0.13, 32 P0.14, 33 P0.15, 34 P0.16, 35 SWDIO, 36 SWCLK, 37 P0.17, 38 P0.18, 39 P0.19, 40 P0.20, 41 DEC2, 42 GND

## TLC59711PWP
designator LEDS
12-Channel, 16-Bit, ES-PWM RGB LED Driver with 3.3 V Linear Regulator and Watchdog Timer, 4 to 17 V, -40 to 85 degC, 20-pin SOP (PWP20), Green (RoHS & no Sb/Br); Manufacturer: Texas Instruments; Dimming: TRUE; Vin(Min)(V): 4; Vin(Max)(V): 17; Iout(Max)(A): 0.075; Rating: Catalog; PackageReference: PWP20-2965X2290TP; DatasheetVersion: SBVS181A; Mounting Technology: Surface Mount; PartNumber: TLC59711PWP; ComponentLink2Description: Datasheet; ComponentLink3Description: Package Specification; SubFamily: LED Driver; Code_JEDEC: MO-153; PackageVersion: 4073225-4/I; PackageDescription: 20-Lead, Plastic Small Outline, Body Size 4.4 x 6.5 mm, Pitch 0.65 mm; ComponentLink2URL: http://www.ti.com/general/docs/lit/getliterature.tsp?genericPartNumber=TLC59711&fileType=pdf; ComponentLink1URL: http://www.ti.com/; ComponentLink3URL: http://www.ti.com/litv/pdf/mhts001g; Eco-Plan: Green (RoHS & no Sb/Br); ComponentLink1Description: Manufacturer URL
footprint TI-PWP20-2965X2290TP_L (SOP, 20-Leads, Body 6.5x4.4mm, Pitch 0.65mm, Thermal Pad 2.965x2.29mm, IPC High Density)
footprint TI-PWP20-2965X2290TP_M (SOP, 20-Leads, Body 6.5x4.4mm, Pitch 0.65mm, Thermal Pad 2.965x2.29mm, IPC Low Density)
footprint TLC59711PWP (12-channel LED driver)
pins: 1 IREF (in) "Maximum current programming terminal. A resistor connected between IREF and GND sets the maximum current for every constant-current output. When this terminal is directly connected to GND, all outputs are forced off. The (See Datasheet)", 2 GND (power) "Power ground terminal", 3 OUTR0 (out) "RED constant-current outputs. Multiple outputs can be configured in parallel to increase the constant-current capability. Different voltages can be applied to each output.", 4 OUTG0 (out) "GREEN constant-current outputs. Multiple outputs can be configured in parallel to increase the constant-current capability. Different voltages can be applied to each output.", 5 OUTB0 (out) "BLUE constant-current outputs. Multiple outputs can be configured in parallel to increase the constant-current capability. Different voltages can be applied to each output.", 6 OUTR1 (out) "RED constant-current outputs. Multiple outputs can be configured in parallel to increase the constant-current capability. Different voltages can be applied to each output.", 7 OUTG1 (out) "GREEN constant-current outputs. Multiple outputs can be configured in parallel to increase the constant-current capability. Different voltages can be applied to each output.", 8 OUTB1 (out) "BLUE constant-current outputs. Multiple outputs can be configured in parallel to increase the constant-current capability. Different voltages can be applied to each output.", 9 SDTI (in) "Serial data input for the 224-bit shift register", 10 SCKI (in) "Serial data shift clock input. Data present on SDTI are shifted to the LSB of the 224-bit shift register with the SCKI rising edge Data in the shift register are shifted toward the MSB at each SCKI rising edge. The MSB data (See Datasheet)", 11 SCKO (out) "Serial data shift clock output. The input shift clock signal from SCKI is adjusted to the timing of the serial data output for SDTO and the signal is then output at SCKO.", 12 SDTO (out) "Serial data output of the 224-bit shift register. SDTO is connected to the MSB of the 224-bit shift register. Data are clocked out at the falling edge SCKO.", 13 OUTR2 (out) "RED constant-current outputs. Multiple outputs can be configured in parallel to increase the constant-current capability. Different voltages can be applied to each output.", 14 OUTG2 (out) "GREEN constant-current outputs. Multiple outputs can be configured in parallel to increase the constant-current capability. Different voltages can be applied to each output.", 15 OUTB2 (out) "BLUE constant-current outputs. Multiple outputs can be configured in parallel to increase the constant-current capability. Different voltages can be applied to each output.", 16 OUTR3 (out) "RED constant-current outputs. Multiple outputs can be configured in parallel to increase the constant-current capability. Different voltages can be applied to each output.", 17 OUTG3 (out) "GREEN constant-current outputs. Multiple outputs can be configured in parallel to increase the constant-current capability. Different voltages can be applied to each output.", 18 OUTB3 (out) "BLUE constant-current outputs. Multiple outputs can be configured in parallel to increase the constant-current capability. Different voltages can be applied to each output.", 19 VCC (power) "Power-supply terminal", 20 VREG (power) "Internal linear voltage regulator output. A decoupling capacitor of 1 uF must be connected. This output can be used for external devices as a 3.3- V power supply. This terminal can be connected with the VREG terminal of (See Datasheet)", 21 EP (power) "Exposed Pad"


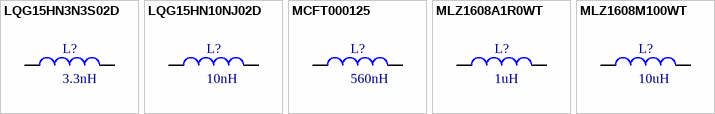
[diagram p6: symbols LQG15HN3N3S02D to MLZ1608M100WT]

## LQG15HN3N3S02D
designator L?, comment 3.3nH
High Frequency Inductor, LQG15HN Series, 3.3 nH, 300 mA, 0402; Value: 3.3nH
footprint INDC0402
pins: 1, 2

## LQG15HN10NJ02D
designator L?, comment 10nH
High Frequency Inductor, LQG15HN Series, 10 nH, 300 mA, 0402; Value: 10nH
footprint INDC0402
pins: 1, 2

## MCFT000125
designator L?, comment 560nH
High Frequency Inductor, MCFT Series, 560 nH, 230 mA, 0805; Value: 560nH
footprint INDC0805
pins: 1, 2

## MLZ1608A1R0WT
designator L?, comment 1uH
High Frequency Inductor, MLZ Series, 1 µH, 600 mA, 0603; Value: 1uH
footprint INDC0603
pins: 1, 2

## MLZ1608M100WT
designator L?, comment 10uH
High Frequency Inductor, MLZ Series, 10 µH, 250 mA, 0603; Value: 10uH
footprint INDC0603
pins: 1, 2